# EAGLE library part 2X10 (library CardEdgePads)
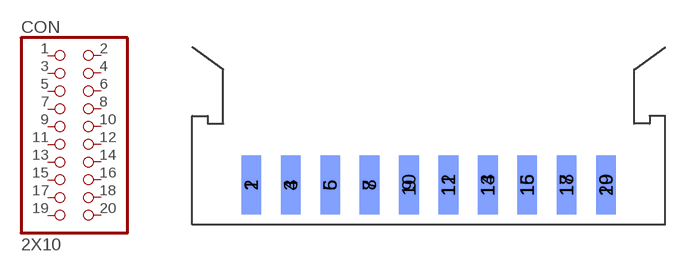
[diagram p2: symbol with the pads of 2X10; footprint 2X10]

Designator prefix CON

## 2X10  [2X10]
1  1  pas
2  2  pas
3  3  pas
4  4  pas
5  5  pas
6  6  pas
7  7  pas
8  8  pas
9  9  pas
10  10  pas
11  11  pas
12  12  pas
13  13  pas
14  14  pas
15  15  pas
16  16  pas
17  17  pas
18  18  pas
19  19  pas
20  20  pas

## Footprint 2X10 (pad centres in mm)
smd 1.27 x 3.81: 1 -11.43,0; 3 -8.89,0; 5 -6.35,0; 7 -3.81,0; 9 -1.27,0; 11 1.27,0; 13 3.81,0; 15 6.35,0; 17 8.89,0; 19 11.43,0
smd 1.27 x 3.81 bottom: 2 -11.43,0; 4 -8.89,0; 6 -6.35,0; 8 -3.81,0; 10 -1.27,0; 12 1.27,0; 14 3.81,0; 16 6.35,0; 18 8.89,0; 20 11.43,0